# Altium schematic symbol library current-meter.SchLib: 34 symbols
Pins are listed as number, name and electrical type; pins without a type are passive.

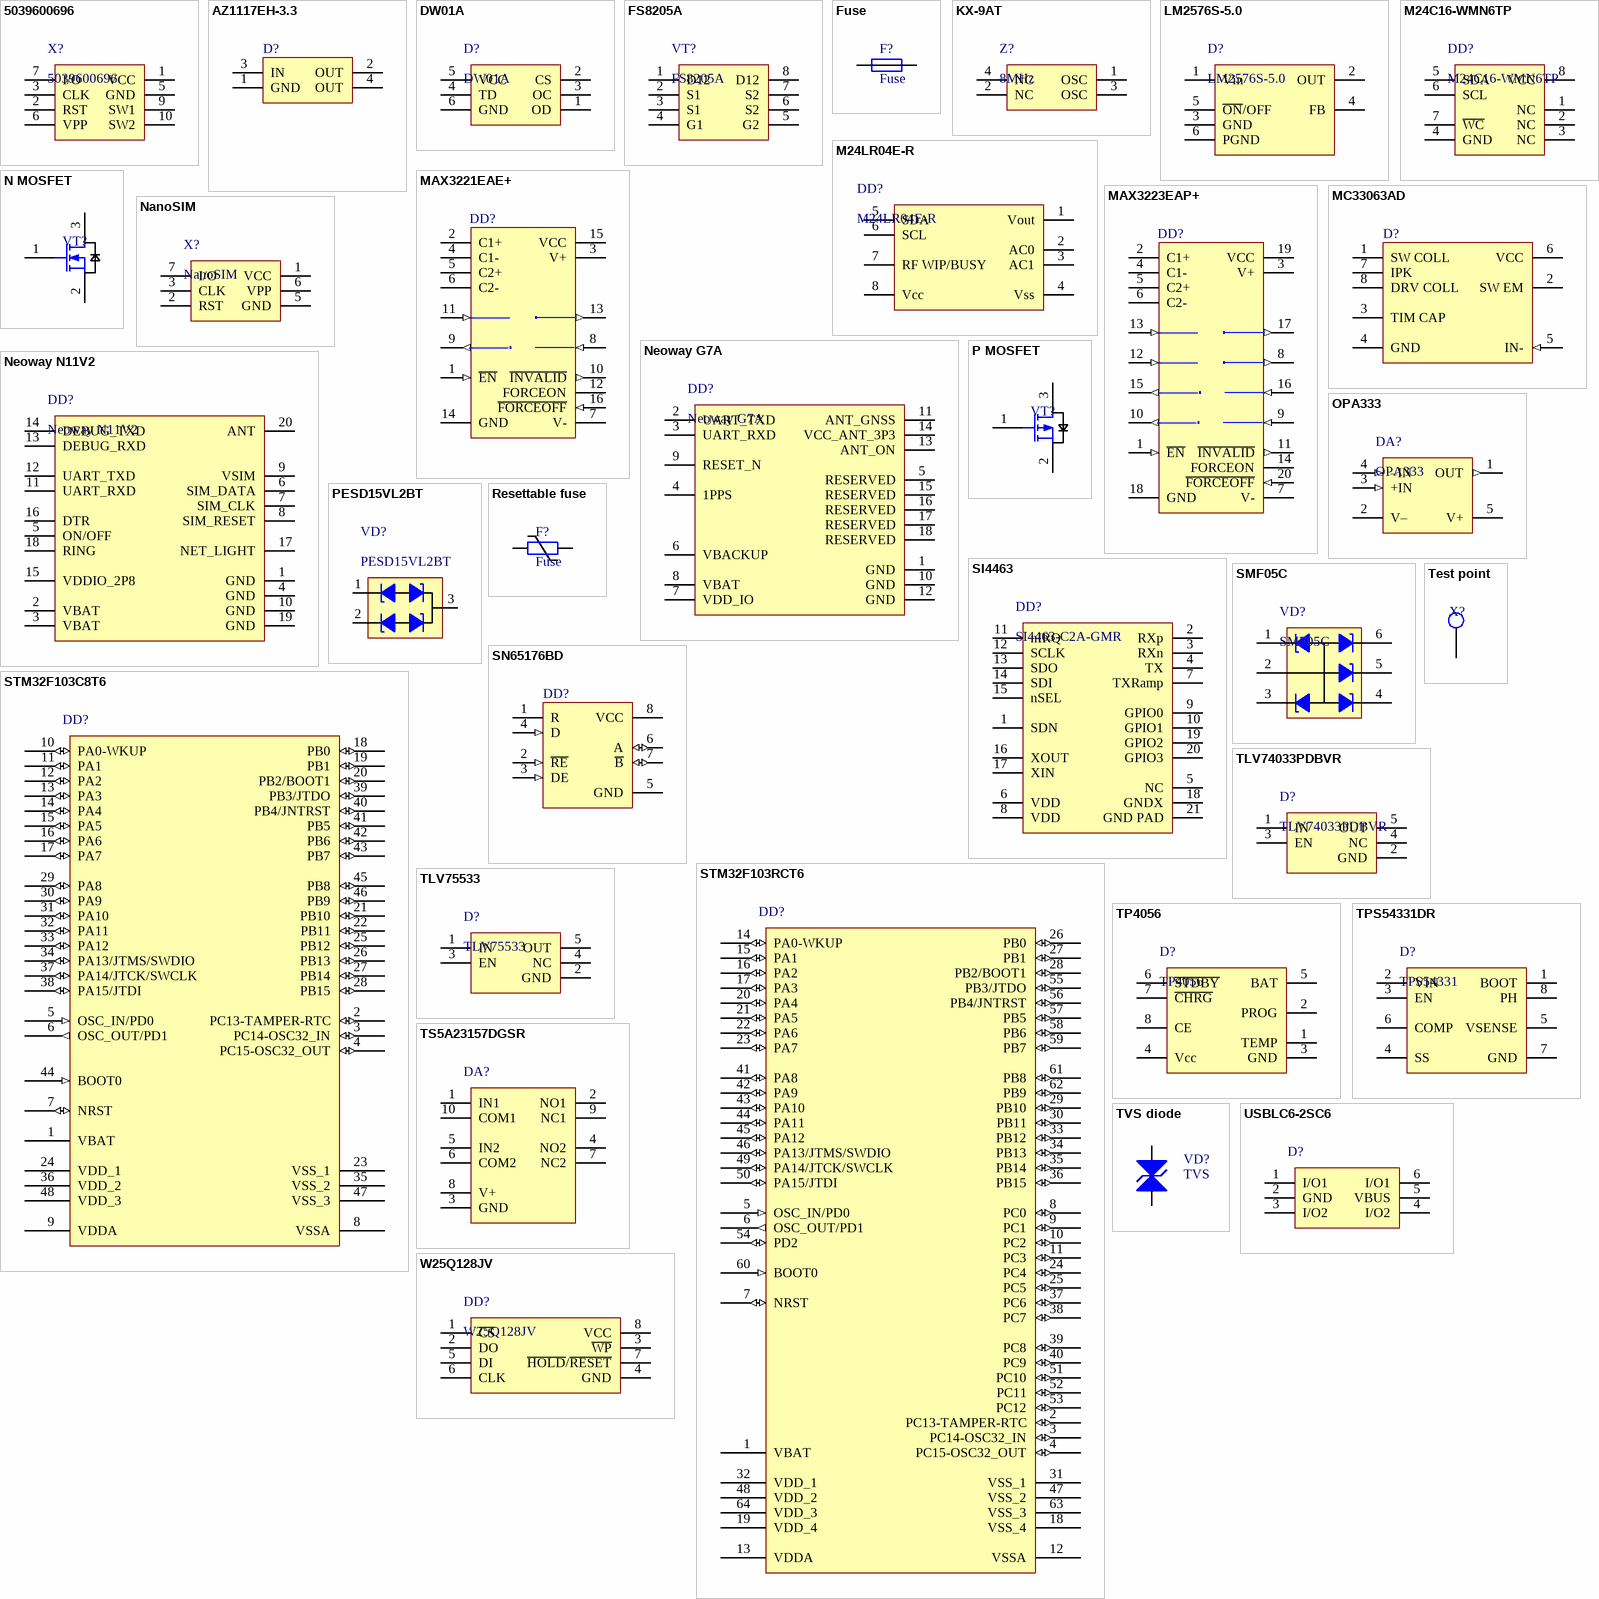
[diagram p0: symbols 5039600696 to W25Q128JV]

## 5039600696
designator X?
NanoSIM
pins: 1 VCC, 2 RST, 3 CLK, 5 GND, 6 VPP, 7 I/O, 9 SW1, 10 SW2

## AZ1117EH-3.3
designator D?
AZ1117EH-3.3TRG1
pins: 1 GND (power), 2 OUT (power), 3 IN (power), 4 OUT (power)

## DW01A
designator D?
pins: 1 OD, 2 CS, 3 OC, 4 TD, 5 VCC, 6 GND

## FS8205A
designator VT?
pins: 1 D12, 2 S1, 3 S1, 4 G1, 5 G2, 6 S2, 7 S2, 8 D12

## Fuse
designator F?
PARTNUMBER
pins: 1, 2

## KX-9AT
designator Z?, comment 8MHz
12.89048 (12.89007 -20+70)
pins: 1 OSC, 2 NC, 3 OSC, 4 NC

## LM2576S-5.0
designator D?
LM2576S-5.0/NOPB
pins: 1 Vin, 2 OUT, 3 GND, 4 FB, 5 ~{ON}/OFF, 6 PGND

## M24C16-WMN6TP
designator DD?
pins: 1 NC, 2 NC, 3 NC, 4 GND, 5 SDA, 6 SCL, 7 ~{WC}, 8 VCC

## M24LR04E-R
designator DD?
M24LR04E-RDW6T/2
pins: 1 Vout, 2 AC0, 3 AC1, 4 Vss, 5 SDA, 6 SCL, 7 RF WIP/BUSY, 8 Vcc

## MAX3221EAE+
designator DD?
MAX3221EAE+
footprint SSOP16_N (SOP, 16-Leads, Body 6.2x5.3mm, Pitch 0.65mm, IPC Medium Density)
footprint SSOP16_L (SOP, 16-Leads, Body 6.2x5.3mm, Pitch 0.65mm, IPC High Density)
footprint SSOP16_M (SOP, 16-Leads, Body 6.2x5.3mm, Pitch 0.65mm, IPC Low Density)
3D model SSOP16 (16-Pin Small Outline Package 0.65 mm Pitch)
pins: 1 ~{EN} (in), 2 C1+, 3 V+ (power), 4 C1-, 5 C2+, 6 C2-, 7 V- (power), 8 R1IN (in), 9 R1OUT (out), 10 ~{INVALID} (out), 11 T1IN (in), 12 FORCEON, 13 T1OUT (out), 14 GND (power), 15 VCC (power), 16 ~{FORCEOFF} (in)

## MAX3223EAP+
designator DD?
MAX3223EAP+
pins: 1 ~{EN} (in), 2 C1+, 3 V+ (power), 4 C1-, 5 C2+, 6 C2-, 7 V- (power), 8 T2OUT (out), 9 R2IN (in), 10 R2OUT (out), 11 ~{INVALID} (out), 12 T2IN (in), 13 T1IN (in), 14 FORCEON, 15 R1OUT (out), 16 R1IN (in), 17 T1OUT (out), 18 GND (power), 19 VCC (power), 20 ~{FORCEOFF} (in)

## MC33063AD
designator D?
MC33063AD
footprint 751-05_N (SOIC, 8-Leads, Body 4.9x3.9mm, Pitch 1.27mm, IPC Medium Density)
footprint 751-05_L (SOIC, 8-Leads, Body 4.9x3.9mm, Pitch 1.27mm, IPC High Density)
footprint 751-05_M (SOIC, 8-Leads, Body 4.9x3.9mm, Pitch 1.27mm, IPC Low Density)
pins: 1 SW COLL, 2 SW EM, 3 TIM CAP, 4 GND (power), 5 IN- (in), 6 VCC (power), 7 IPK, 8 DRV COLL (oc)

## N MOSFET
designator VT?
PARTNUMBER
pins: 1 G, 2 S, 3 D

## NanoSIM
designator X?
Nano SIM 6pin 1.35H
pins: 1 VCC, 2 RST, 3 CLK, 5 GND, 6 VPP, 7 I/O

## Neoway G7A
designator DD?
pins: 1 GND, 2 UART_TXD, 3 UART_RXD, 4 1PPS, 5 RESERVED, 6 VBACKUP, 7 VDD_IO, 8 VBAT, 9 RESET_N, 10 GND, 11 ANT_GNSS, 12 GND, 13 ANT_ON, 14 VCC_ANT_3P3, 15 RESERVED, 16 RESERVED, 17 RESERVED, 18 RESERVED

## Neoway N11V2
designator DD?
pins: 1 GND, 2 VBAT, 3 VBAT, 4 GND, 5 ON/OFF, 6 SIM_DATA, 7 SIM_CLK, 8 SIM_RESET, 9 VSIM, 10 GND, 11 UART_RXD, 12 UART_TXD, 13 DEBUG_RXD, 14 DEBUG_TXD, 15 VDDIO_2P8, 16 DTR, 17 NET_LIGHT, 18 RING, 19 GND, 20 ANT

## OPA333
designator DA?
OPA333AIDBVR
pins: 1 OUT (out), 2 V–, 3 +IN (in), 4 –IN (in), 5 V+

## P MOSFET
designator VT?
PARTNUMBER
pins: 1 G, 2 S, 3 D

## PESD15VL2BT
designator VD?
pins: 1, 2, 3

## Resettable fuse
designator F?, comment Fuse
PARTNUMBER
pins: 1, 2

## SI4463
designator DD?, comment SI4463-C2A-GMR
pins: 1 SDN, 2 RXp, 3 RXn, 4 TX, 5 NC, 6 VDD, 7 TXRamp, 8 VDD, 9 GPIO0, 10 GPIO1, 11 nIRQ, 12 SCLK, 13 SDO, 14 SDI, 15 nSEL, 16 XOUT, 17 XIN, 18 GNDX, 19 GPIO2, 20 GPIO3, 21 GND PAD

## SMF05C
designator VD?
pins: 1 CATHODE, 2 ANODE, 3 CATHODE, 4 CATHODE, 5 CATHODE, 6 CATHODE

## SN65176BD
designator DD?
SN65176BD
footprint D008_N (SOIC, 8-Leads, Body 4.9x3.9mm, Pitch 1.27mm, IPC Medium Density)
footprint D008_L (SOIC, 8-Leads, Body 4.9x3.9mm, Pitch 1.27mm, IPC High Density)
footprint D008_M (SOIC, 8-Leads, Body 4.9x3.9mm, Pitch 1.27mm, IPC Low Density)
3D model D008 (8-Pin Small Outline Integrated Circuit 1.27 mm Pitch)
pins: 1 R (hiz), 2 ~{RE} (in), 3 DE (in), 4 D (in), 5 GND (power), 6 A (io), 7 ~{B} (io), 8 VCC (power)

## STM32F103C8T6
designator DD?
STM32F103C8T6
footprint LQFP48_N (Thin QFP, 48-Leads, Body 7x7mm, Pitch 0.5mm, IPC Medium Density)
footprint LQFP48_L (Thin QFP, 48-Leads, Body 7x7mm, Pitch 0.5mm, IPC High Density)
footprint LQFP48_M (Thin QFP, 48-Leads, Body 7x7mm, Pitch 0.5mm, IPC Low Density)
pins: 1 VBAT (power), 2 PC13-TAMPER-RTC (io), 3 PC14-OSC32_IN (io), 4 PC15-OSC32_OUT (io), 5 OSC_IN/PD0 (in), 6 OSC_OUT/PD1 (out), 7 NRST (io), 8 VSSA (power), 9 VDDA (power), 10 PA0-WKUP (io), 11 PA1 (io), 12 PA2 (io), 13 PA3 (io), 14 PA4 (io), 15 PA5 (io), 16 PA6 (io), 17 PA7 (io), 18 PB0 (io), 19 PB1 (io), 20 PB2/BOOT1 (io), 21 PB10 (io), 22 PB11 (io), 23 VSS_1 (power), 24 VDD_1 (power), 25 PB12 (io), 26 PB13 (io), 27 PB14 (io), 28 PB15 (io), 29 PA8 (io), 30 PA9 (io), 31 PA10 (io), 32 PA11 (io), 33 PA12 (io), 34 PA13/JTMS/SWDIO (io), 35 VSS_2 (power), 36 VDD_2 (power), 37 PA14/JTCK/SWCLK (io), 38 PA15/JTDI (io), 39 PB3/JTDO (io), 40 PB4/JNTRST (io), 41 PB5 (io), 42 PB6 (io), 43 PB7 (io), 44 BOOT0 (in), 45 PB8 (io), 46 PB9 (io), 47 VSS_3 (power), 48 VDD_3 (power)

## STM32F103RCT6
designator DD?
STM32F103RCT6
footprint LQFP64_N (Thin QFP, 64-Leads, Body 10x10mm, Pitch 0.5mm, IPC Medium Density)
footprint LQFP64_L (Thin QFP, 64-Leads, Body 10x10mm, Pitch 0.5mm, IPC High Density)
footprint LQFP64_M (Thin QFP, 64-Leads, Body 10x10mm, Pitch 0.5mm, IPC Low Density)
pins: 1 VBAT (power), 2 PC13-TAMPER-RTC (io), 3 PC14-OSC32_IN (io), 4 PC15-OSC32_OUT (io), 5 OSC_IN/PD0 (in), 6 OSC_OUT/PD1 (out), 7 NRST (io), 8 PC0 (io), 9 PC1 (io), 10 PC2 (io), 11 PC3 (io), 12 VSSA (power), 13 VDDA (power), 14 PA0-WKUP (io), 15 PA1 (io), 16 PA2 (io), 17 PA3 (io), 18 VSS_4 (power), 19 VDD_4 (power), 20 PA4 (io), 21 PA5 (io), 22 PA6 (io), 23 PA7 (io), 24 PC4 (io), 25 PC5 (io), 26 PB0 (io), 27 PB1 (io), 28 PB2/BOOT1 (io), 29 PB10 (io), 30 PB11 (io), 31 VSS_1 (power), 32 VDD_1 (power), 33 PB12 (io), 34 PB13 (io), 35 PB14 (io), 36 PB15 (io), 37 PC6 (io), 38 PC7 (io), 39 PC8 (io), 40 PC9 (io), 41 PA8 (io), 42 PA9 (io), 43 PA10 (io), 44 PA11 (io), 45 PA12 (io), 46 PA13/JTMS/SWDIO (io), 47 VSS_2 (power), 48 VDD_2 (power), 49 PA14/JTCK/SWCLK (io), 50 PA15/JTDI (io), 51 PC10 (io), 52 PC11 (io), 53 PC12 (io), 54 PD2 (io), 55 PB3/JTDO (io), 56 PB4/JNTRST (io), 57 PB5 (io), 58 PB6 (io), 59 PB7 (io), 60 BOOT0 (in), 61 PB8 (io), 62 PB9 (io), 63 VSS_3 (power), 64 VDD_3 (power)

## Test point
designator X?  (value not drawn)
pins: 1

## TLV74033PDBVR
designator D?
pins: 1 IN, 2 GND, 3 EN, 4 NC, 5 OUT

## TLV75533
designator D?
TLV75533PDBVR
pins: 1 IN, 2 GND, 3 EN, 4 NC, 5 OUT

## TP4056
designator D?
pins: 1 TEMP, 2 PROG, 3 GND, 4 Vcc, 5 BAT, 6 ~{STDBY}, 7 ~{CHRG}, 8 CE

## TPS54331DR
designator D?, comment TPS54331
pins: 1 BOOT, 2 VIN, 3 EN, 4 SS, 5 VSENSE, 6 COMP, 7 GND, 8 PH

## TS5A23157DGSR
designator DA?
TS5A23157DGSR
pins: 1 IN1, 2 NO1, 3 GND, 4 NO2, 5 IN2, 6 COM2, 7 NC2, 8 V+, 9 NC1, 10 COM1

## TVS diode
designator VD?, comment TVS
PARTNUMBER
footprint DIODE-0.7 (Diode, Thru-Hole; 2 Leads; 0.7 in Pin Spacing)
simulation model ZENER (Diode)
signal-integrity model D Zener
pins: 1 A, 2 K

## USBLC6-2SC6
designator D?
USBLC6-2SC6
pins: 1 I/O1, 2 GND, 3 I/O2, 4 I/O2, 5 VBUS, 6 I/O1

## W25Q128JV
designator DD?
W25Q128JVSIQ
pins: 1 ~{CS}, 2 DO, 3 ~{WP}, 4 GND, 5 DI, 6 CLK, 7 ~{HOLD}/~{RESET}, 8 VCC